# EAGLE library part LT8302 (library wheat)
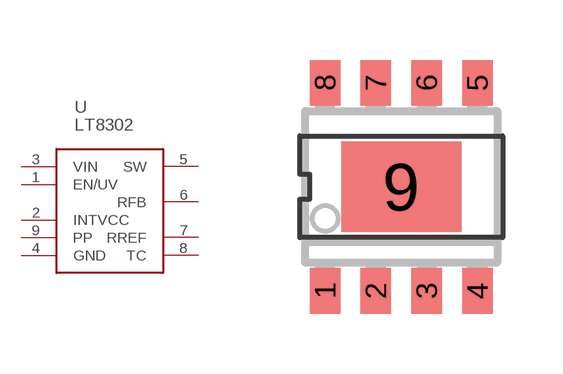
[diagram p203: symbol with the pads of HSOP8_LTC; footprint HSOP8_LTC]

Designator prefix -

## LT8302S8E  [HSOP8_LTC]
1  EN/UV
2  INTVCC
3  VIN
4  GND
5  SW
6  RFB
7  RREF
8  TC
9  PP

## Footprint HSOP8_LTC (pad centres in mm)
smd 0.762 x 1.143: 1 -1.905,-2.603; 2 -0.635,-2.603; 3 0.635,-2.603; 4 1.905,-2.603; 5 1.905,2.603; 6 0.635,2.603; 7 -0.635,2.603; 8 -1.905,2.603
smd 2.997 x 2.261: 9 0,0